# EAGLE library part J30 (library Eagle_CAD_parts)
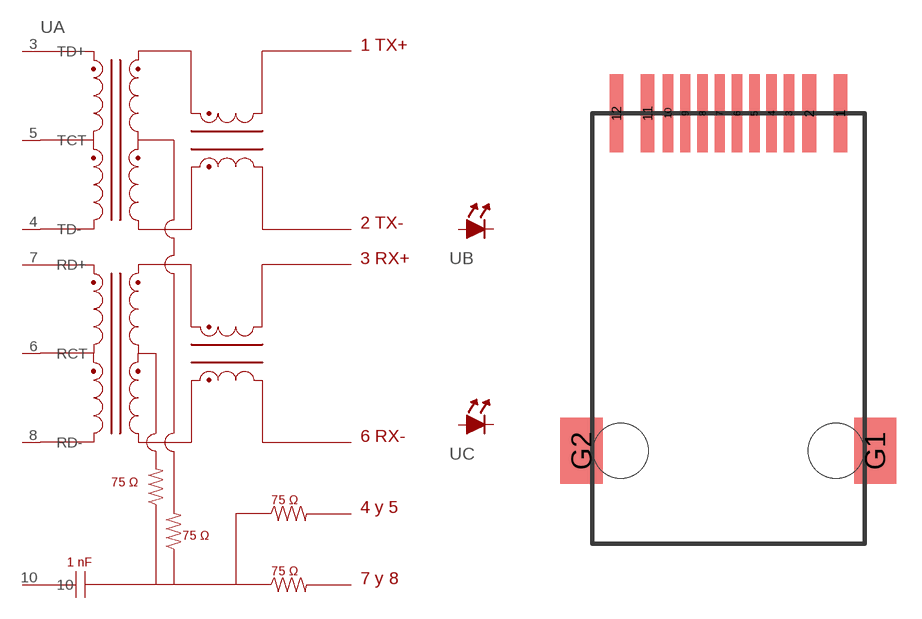
[diagram p103: symbol with the pads of RJ45_J3011; footprint RJ45_J3011]

Designator prefix U; gates A=LAN_TRANSFORMER_J3011_SYM B=LED C=LED

## J3011G21DNLT (DIGIKEY_PART_NUMBER: 553-1763-1-ND; MANUFACTURER_PART_NUMBER: J3011G21DNLT)  [RJ45_J3011]
1  B:A+  pas
2  B:C-  pas
3  A:TD+
4  A:TD-
5  A:TCT
6  A:RCT
7  A:RD+
8  A:RD-
10  A:10
11  C:C-  pas
12  C:A+  pas

## Footprint RJ45_J3011 (pad centres in mm)
smd 0.81 x 4.6: 1 6.61,0; 2 4.77,0; 11 -4.77,0; 12 -6.61,0
smd 0.61 x 4.6: 3 3.57,0; 4 2.55,0; 5 1.53,0; 6 0.51,0; 7 -0.51,0; 8 -1.53,0; 9 -2.55,0; 10 -3.57,0
smd 2.5 x 3.9: G1 8.67,-19.92; G2 -8.67,-19.92
hole 3.25 at 6.35,-19.92
hole 3.25 at -6.35,-19.92